# Altium integrated library Analog Devices Operational Amplifiers.IntLib: 2102 symbols (part 10 of 70)
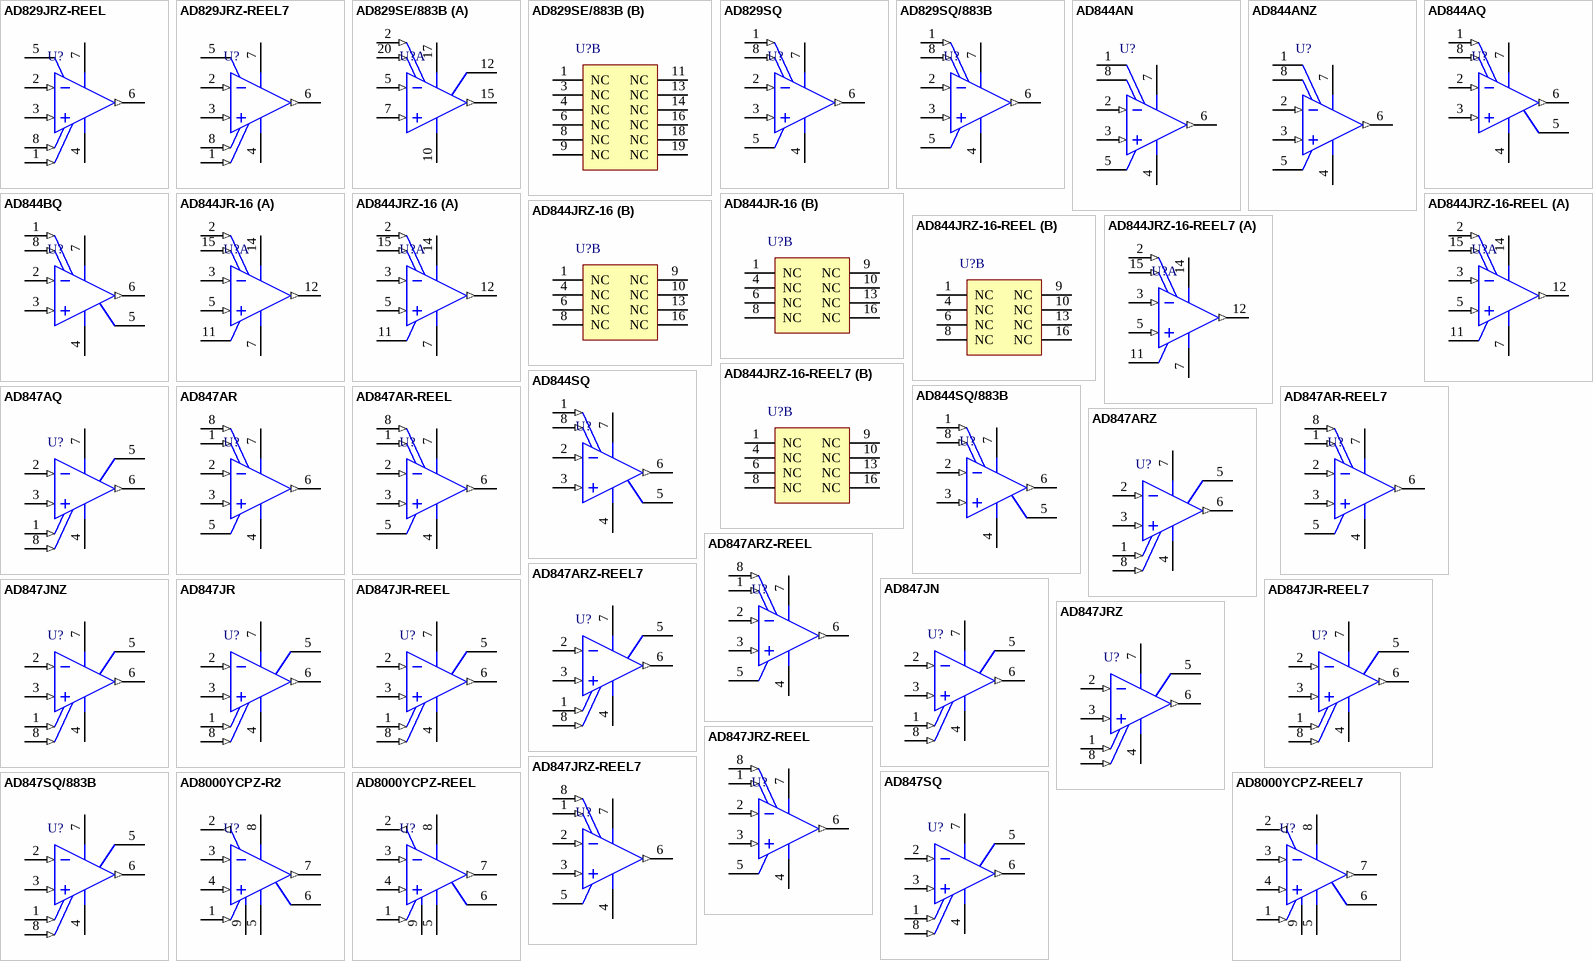
[diagram p123: symbols AD829JRZ-REEL to AD8000YCPZ-REEL7]

## AD847AR-REEL7
designator U?
Single Channel Superior Performance, High Unity Gain Operational Amplifier, 50 MHz BW, 300 V/us SR, Industrial, 8-pin SOIC (R-8), Reel; Generic Part Number: AD847; Manufacturer: Analog Devices; PartNumber: AD847AR-REEL7; Amplifiers Per Package: 1; Input Bias Current: 3.3uA; Input Offset Voltage: 500uV; Iq/Amp: 4.8mA; Small Signal Bandwidth: 50MHz; V Span Max: 36V; V Span Min: 9V; DatasheetVersion: Rev. F; PackageVersion: 060506-A; PackageReference: R-8; PackageDescription: 8-Pin Standard Small Outline Package, Body 3.9 x 4.9 mm, Pitch 1.27 mm; Supplier 1: Digi-Key; Supplier Part Number 1: AD847AR-REEL7-ND; Supplier 2: Newark; Supplier Part Number 2: 09B6626; Packing: Reel; Slew Rate: 300V/us; Mounting Technology: Surface Mount; Code_JEDEC: MS-012-AA; ComponentLink1Description: Manufacturer URL; ComponentLink1URL: http://www.analog.com/en/index.html; ComponentLink2Description: Datasheet; ComponentLink2URL: http://www.analog.com/static/imported-files/data_sheets/AD847.pdf; ComponentLink3Description: Package Specification; ComponentLink3URL: http://www.analog.com/static/imported-files/packages/PKG_PDF/SOIC_Narrow%20(R)/R_8.pdf
footprint ADI-R-8_N (SOIC, 8-Leads, Body 4.9x3.9mm, Pitch 1.27mm, IPC Medium Density)
footprint ADI-R-8_L (SOIC, 8-Leads, Body 4.9x3.9mm, Pitch 1.27mm, IPC High Density)
footprint ADI-R-8_M (SOIC, 8-Leads, Body 4.9x3.9mm, Pitch 1.27mm, IPC Low Density)
pins: 1 NULL (in), 2 -IN (in), 3 +IN (in), 4 -VS (power), 5 NC, 6 OUT (out), 7 +VS (power), 8 NULL (in)

## AD847ARZ
designator U?
Single Channel Superior Performance, High Unity Gain Operational Amplifier, 50 MHz BW, 300 V/us SR, Industrial, 8-pin SOIC (R-8), Tube; Generic Part Number: AD847; Manufacturer: Analog Devices; PartNumber: AD847ARZ; Amplifiers Per Package: 1; Input Bias Current: 3.3uA; Input Offset Voltage: 500uV; Iq/Amp: 4.8mA; Small Signal Bandwidth: 50MHz; V Span Max: 36V; V Span Min: 9V; DatasheetVersion: Rev. F; PackageVersion: 060506-A; PackageReference: R-8; PackageDescription: 8-Pin Standard Small Outline Package, Body 3.9 x 4.9 mm, Pitch 1.27 mm; Supplier 1: Digi-Key; Supplier Part Number 1: AD847ARZ-ND; Supplier 2: Newark; Supplier Part Number 2: 88H0244; Packing: Tube; Slew Rate: 300V/us; Mounting Technology: Surface Mount; Code_JEDEC: MS-012-AA; ComponentLink1Description: Manufacturer URL; ComponentLink1URL: http://www.analog.com/en/index.html; ComponentLink2Description: Datasheet; ComponentLink2URL: http://www.analog.com/static/imported-files/data_sheets/AD847.pdf; ComponentLink3Description: Package Specification; ComponentLink3URL: http://www.analog.com/static/imported-files/packages/PKG_PDF/SOIC_Narrow%20(R)/R_8.pdf
footprint ADI-R-8_N (SOIC, 8-Leads, Body 4.9x3.9mm, Pitch 1.27mm, IPC Medium Density)
footprint ADI-R-8_L (SOIC, 8-Leads, Body 4.9x3.9mm, Pitch 1.27mm, IPC High Density)
footprint ADI-R-8_M (SOIC, 8-Leads, Body 4.9x3.9mm, Pitch 1.27mm, IPC Low Density)
pins: 1 NULL (in), 2 -IN (in), 3 +IN (in), 4 -VS (power), 5 NC, 6 OUT (out), 7 +VS (power), 8 NULL (in)

## AD847ARZ-REEL
designator U?
Single Channel Superior Performance, High Unity Gain Operational Amplifier, 50 MHz BW, 300 V/us SR, Industrial, 8-pin SOIC (R-8), Reel; Generic Part Number: AD847; Manufacturer: Analog Devices; PartNumber: AD847ARZ-REEL; Amplifiers Per Package: 1; Input Bias Current: 3.3uA; Input Offset Voltage: 500uV; Iq/Amp: 4.8mA; Small Signal Bandwidth: 50MHz; V Span Max: 36V; V Span Min: 9V; DatasheetVersion: Rev. F; PackageVersion: 060506-A; PackageReference: R-8; PackageDescription: 8-Pin Standard Small Outline Package, Body 3.9 x 4.9 mm, Pitch 1.27 mm; Supplier 1: Digi-Key; Supplier Part Number 1: AD847ARZ-REEL-ND; Supplier 2: Newark; Supplier Part Number 2: 88H0245; Packing: Reel; Slew Rate: 300V/us; Mounting Technology: Surface Mount; Code_JEDEC: MS-012-AA; ComponentLink1Description: Manufacturer URL; ComponentLink1URL: http://www.analog.com/en/index.html; ComponentLink2Description: Datasheet; ComponentLink2URL: http://www.analog.com/static/imported-files/data_sheets/AD847.pdf; ComponentLink3Description: Package Specification; ComponentLink3URL: http://www.analog.com/static/imported-files/packages/PKG_PDF/SOIC_Narrow%20(R)/R_8.pdf
footprint ADI-R-8_N (SOIC, 8-Leads, Body 4.9x3.9mm, Pitch 1.27mm, IPC Medium Density)
footprint ADI-R-8_L (SOIC, 8-Leads, Body 4.9x3.9mm, Pitch 1.27mm, IPC High Density)
footprint ADI-R-8_M (SOIC, 8-Leads, Body 4.9x3.9mm, Pitch 1.27mm, IPC Low Density)
pins: 1 NULL (in), 2 -IN (in), 3 +IN (in), 4 -VS (power), 5 NC, 6 OUT (out), 7 +VS (power), 8 NULL (in)

## AD847ARZ-REEL7
designator U?
Single Channel Superior Performance, High Unity Gain Operational Amplifier, 50 MHz BW, 300 V/us SR, Industrial, 8-pin SOIC (R-8), Reel; Generic Part Number: AD847; Manufacturer: Analog Devices; PartNumber: AD847ARZ-REEL7; Amplifiers Per Package: 1; Input Bias Current: 3.3uA; Input Offset Voltage: 500uV; Iq/Amp: 4.8mA; Small Signal Bandwidth: 50MHz; V Span Max: 36V; V Span Min: 9V; DatasheetVersion: Rev. F; PackageVersion: 060506-A; PackageReference: R-8; PackageDescription: 8-Pin Standard Small Outline Package, Body 3.9 x 4.9 mm, Pitch 1.27 mm; Supplier 1: Digi-Key; Supplier Part Number 1: AD847ARZ-REEL7TR-ND; Supplier 2: Digi-Key; Supplier Part Number 2: AD847ARZ-REEL7CT-ND; Supplier 3: Digi-Key; Supplier Part Number 3: AD847ARZ-REEL7DKR-ND; Supplier 4: Newark; Supplier Part Number 4: 88H0246; Packing: Reel; Slew Rate: 300V/us; Mounting Technology: Surface Mount; Code_JEDEC: MS-012-AA; ComponentLink1Description: Manufacturer URL; ComponentLink1URL: http://www.analog.com/en/index.html; ComponentLink2Description: Datasheet; ComponentLink2URL: http://www.analog.com/static/imported-files/data_sheets/AD847.pdf; ComponentLink3Description: Package Specification; ComponentLink3URL: http://www.analog.com/static/imported-files/packages/PKG_PDF/SOIC_Narrow%20(R)/R_8.pdf
footprint ADI-R-8_N (SOIC, 8-Leads, Body 4.9x3.9mm, Pitch 1.27mm, IPC Medium Density)
footprint ADI-R-8_L (SOIC, 8-Leads, Body 4.9x3.9mm, Pitch 1.27mm, IPC High Density)
footprint ADI-R-8_M (SOIC, 8-Leads, Body 4.9x3.9mm, Pitch 1.27mm, IPC Low Density)
pins: 1 NULL (in), 2 -IN (in), 3 +IN (in), 4 -VS (power), 5 NC, 6 OUT (out), 7 +VS (power), 8 NULL (in)

## AD847JN
designator U?
Single Channel Superior Performance, High Unity Gain Operational Amplifier, 50 MHz BW, 300 V/us SR, Commercial, 8-pin DIP (N-8), Tube; Generic Part Number: AD847; Manufacturer: Analog Devices; PartNumber: AD847JN; Amplifiers Per Package: 1; Input Bias Current: 3.3uA; Input Offset Voltage: 500uV; Iq/Amp: 4.8mA; Small Signal Bandwidth: 50MHz; V Span Max: 36V; V Span Min: 9V; DatasheetVersion: Rev. F; PackageVersion: 070606-A; PackageReference: N-8; PackageDescription: 8-Pin Plastic Dual In-Line Package, Row spacing 7.62 mm, Pitch 2.54 mm; Supplier 1: Digi-Key; Supplier Part Number 1: AD847JN-ND; Packing: Tube; Slew Rate: 300V/us; Mounting Technology: Through Hole; Code_JEDEC: MS-001; ComponentLink1Description: Manufacturer URL; ComponentLink1URL: http://www.analog.com/en/index.html; ComponentLink2Description: Datasheet; ComponentLink2URL: http://www.analog.com/static/imported-files/data_sheets/AD847.pdf; ComponentLink3Description: Package Specification; ComponentLink3URL: http:/www.analog.com/static/imported-files/packages/PKG_PDF/PDIP(N)/N_8.pdf
footprint ADI-N-8 (DIP, 8-Leads, Body 9.59x6.6mm, Pitch 2.54mm)
pins: 1 NULL (in), 2 -IN (in), 3 +IN (in), 4 -VS (power), 5 NC, 6 OUT (out), 7 +VS (power), 8 NULL (in)

## AD847JNZ
designator U?
Single Channel Superior Performance, High Unity Gain Operational Amplifier, 50 MHz BW, 300 V/us SR, Commercial, 8-pin DIP (N-8), Tube; Generic Part Number: AD847; Manufacturer: Analog Devices; PartNumber: AD847JNZ; Amplifiers Per Package: 1; Input Bias Current: 3.3uA; Input Offset Voltage: 500uV; Iq/Amp: 4.8mA; Small Signal Bandwidth: 50MHz; V Span Max: 36V; V Span Min: 9V; DatasheetVersion: Rev. F; PackageVersion: 070606-A; PackageReference: N-8; PackageDescription: 8-Pin Plastic Dual In-Line Package, Row spacing 7.62 mm, Pitch 2.54 mm; Supplier 1: Digi-Key; Supplier Part Number 1: AD847JNZ-ND; Supplier 2: Farnell; Supplier Part Number 2: 1523891; Supplier 3: Farnell; Supplier Part Number 3: 9604707; Supplier 4: Newark; Supplier Part Number 4: 59K6758; Packing: Tube; Slew Rate: 300V/us; Mounting Technology: Through Hole; Code_JEDEC: MS-001; ComponentLink1Description: Manufacturer URL; ComponentLink1URL: http://www.analog.com/en/index.html; ComponentLink2Description: Datasheet; ComponentLink2URL: http://www.analog.com/static/imported-files/data_sheets/AD847.pdf; ComponentLink3Description: Package Specification; ComponentLink3URL: http:/www.analog.com/static/imported-files/packages/PKG_PDF/PDIP(N)/N_8.pdf
footprint ADI-N-8 (DIP, 8-Leads, Body 9.59x6.6mm, Pitch 2.54mm)
pins: 1 NULL (in), 2 -IN (in), 3 +IN (in), 4 -VS (power), 5 NC, 6 OUT (out), 7 +VS (power), 8 NULL (in)

## AD847JR
designator U?
Single Channel Superior Performance, High Unity Gain Operational Amplifier, 50 MHz BW, 300 V/us SR, Commercial, 8-pin SOIC (R-8), Tube; Generic Part Number: AD847; Manufacturer: Analog Devices; PartNumber: AD847JR; Amplifiers Per Package: 1; Input Bias Current: 3.3uA; Input Offset Voltage: 500uV; Iq/Amp: 4.8mA; Small Signal Bandwidth: 50MHz; V Span Max: 36V; V Span Min: 9V; DatasheetVersion: Rev. F; PackageVersion: 060506-A; PackageReference: R-8; PackageDescription: 8-Pin Standard Small Outline Package, Body 3.9 x 4.9 mm, Pitch 1.27 mm; Supplier 1: Digi-Key; Supplier Part Number 1: AD847JR-ND; Packing: Tube; Slew Rate: 300V/us; Mounting Technology: Surface Mount; Code_JEDEC: MS-012-AA; ComponentLink1Description: Manufacturer URL; ComponentLink1URL: http://www.analog.com/en/index.html; ComponentLink2Description: Datasheet; ComponentLink2URL: http://www.analog.com/static/imported-files/data_sheets/AD847.pdf; ComponentLink3Description: Package Specification; ComponentLink3URL: http://www.analog.com/static/imported-files/packages/PKG_PDF/SOIC_Narrow%20(R)/R_8.pdf
footprint ADI-R-8_N (SOIC, 8-Leads, Body 4.9x3.9mm, Pitch 1.27mm, IPC Medium Density)
footprint ADI-R-8_L (SOIC, 8-Leads, Body 4.9x3.9mm, Pitch 1.27mm, IPC High Density)
footprint ADI-R-8_M (SOIC, 8-Leads, Body 4.9x3.9mm, Pitch 1.27mm, IPC Low Density)
pins: 1 NULL (in), 2 -IN (in), 3 +IN (in), 4 -VS (power), 5 NC, 6 OUT (out), 7 +VS (power), 8 NULL (in)

## AD847JR-REEL
designator U?
Single Channel Superior Performance, High Unity Gain Operational Amplifier, 50 MHz BW, 300 V/us SR, Commercial, 8-pin SOIC (R-8), Reel; Generic Part Number: AD847; Manufacturer: Analog Devices; PartNumber: AD847JR-REEL; Amplifiers Per Package: 1; Input Bias Current: 3.3uA; Input Offset Voltage: 500uV; Iq/Amp: 4.8mA; Small Signal Bandwidth: 50MHz; V Span Max: 36V; V Span Min: 9V; DatasheetVersion: Rev. F; PackageVersion: 060506-A; PackageReference: R-8; PackageDescription: 8-Pin Standard Small Outline Package, Body 3.9 x 4.9 mm, Pitch 1.27 mm; Supplier 1: Digi-Key; Supplier Part Number 1: AD847JR-REEL-ND; Supplier 2: Newark; Supplier Part Number 2: 09B6627; Packing: Reel; Slew Rate: 300V/us; Mounting Technology: Surface Mount; Code_JEDEC: MS-012-AA; ComponentLink1Description: Manufacturer URL; ComponentLink1URL: http://www.analog.com/en/index.html; ComponentLink2Description: Datasheet; ComponentLink2URL: http://www.analog.com/static/imported-files/data_sheets/AD847.pdf; ComponentLink3Description: Package Specification; ComponentLink3URL: http://www.analog.com/static/imported-files/packages/PKG_PDF/SOIC_Narrow%20(R)/R_8.pdf
footprint ADI-R-8_N (SOIC, 8-Leads, Body 4.9x3.9mm, Pitch 1.27mm, IPC Medium Density)
footprint ADI-R-8_L (SOIC, 8-Leads, Body 4.9x3.9mm, Pitch 1.27mm, IPC High Density)
footprint ADI-R-8_M (SOIC, 8-Leads, Body 4.9x3.9mm, Pitch 1.27mm, IPC Low Density)
pins: 1 NULL (in), 2 -IN (in), 3 +IN (in), 4 -VS (power), 5 NC, 6 OUT (out), 7 +VS (power), 8 NULL (in)

## AD847JR-REEL7
designator U?
Single Channel Superior Performance, High Unity Gain Operational Amplifier, 50 MHz BW, 300 V/us SR, Commercial, 8-pin SOIC (R-8), Reel; Generic Part Number: AD847; Manufacturer: Analog Devices; PartNumber: AD847JR-REEL7; Amplifiers Per Package: 1; Input Bias Current: 3.3uA; Input Offset Voltage: 500uV; Iq/Amp: 4.8mA; Small Signal Bandwidth: 50MHz; V Span Max: 36V; V Span Min: 9V; DatasheetVersion: Rev. F; PackageVersion: 060506-A; PackageReference: R-8; PackageDescription: 8-Pin Standard Small Outline Package, Body 3.9 x 4.9 mm, Pitch 1.27 mm; Supplier 1: Digi-Key; Supplier Part Number 1: AD847JR-REEL7-ND; Supplier 2: Newark; Supplier Part Number 2: 09B6628; Packing: Reel; Slew Rate: 300V/us; Mounting Technology: Surface Mount; Code_JEDEC: MS-012-AA; ComponentLink1Description: Manufacturer URL; ComponentLink1URL: http://www.analog.com/en/index.html; ComponentLink2Description: Datasheet; ComponentLink2URL: http://www.analog.com/static/imported-files/data_sheets/AD847.pdf; ComponentLink3Description: Package Specification; ComponentLink3URL: http://www.analog.com/static/imported-files/packages/PKG_PDF/SOIC_Narrow%20(R)/R_8.pdf
footprint ADI-R-8_N (SOIC, 8-Leads, Body 4.9x3.9mm, Pitch 1.27mm, IPC Medium Density)
footprint ADI-R-8_L (SOIC, 8-Leads, Body 4.9x3.9mm, Pitch 1.27mm, IPC High Density)
footprint ADI-R-8_M (SOIC, 8-Leads, Body 4.9x3.9mm, Pitch 1.27mm, IPC Low Density)
pins: 1 NULL (in), 2 -IN (in), 3 +IN (in), 4 -VS (power), 5 NC, 6 OUT (out), 7 +VS (power), 8 NULL (in)

## AD847JRZ
designator U?
Single Channel Superior Performance, High Unity Gain Operational Amplifier, 50 MHz BW, 300 V/us SR, Commercial, 8-pin SOIC (R-8), Tube; Generic Part Number: AD847; Manufacturer: Analog Devices; PartNumber: AD847JRZ; Amplifiers Per Package: 1; Input Bias Current: 3.3uA; Input Offset Voltage: 500uV; Iq/Amp: 4.8mA; Small Signal Bandwidth: 50MHz; V Span Max: 36V; V Span Min: 9V; DatasheetVersion: Rev. F; PackageVersion: 060506-A; PackageReference: R-8; PackageDescription: 8-Pin Standard Small Outline Package, Body 3.9 x 4.9 mm, Pitch 1.27 mm; Supplier 1: Digi-Key; Supplier Part Number 1: AD847JRZ-ND; Supplier 2: Farnell; Supplier Part Number 2: 9426477; Supplier 3: Newark; Supplier Part Number 3: 19M1202; Packing: Tube; Slew Rate: 300V/us; Mounting Technology: Surface Mount; Code_JEDEC: MS-012-AA; ComponentLink1Description: Manufacturer URL; ComponentLink1URL: http://www.analog.com/en/index.html; ComponentLink2Description: Datasheet; ComponentLink2URL: http://www.analog.com/static/imported-files/data_sheets/AD847.pdf; ComponentLink3Description: Package Specification; ComponentLink3URL: http://www.analog.com/static/imported-files/packages/PKG_PDF/SOIC_Narrow%20(R)/R_8.pdf
footprint ADI-R-8_N (SOIC, 8-Leads, Body 4.9x3.9mm, Pitch 1.27mm, IPC Medium Density)
footprint ADI-R-8_L (SOIC, 8-Leads, Body 4.9x3.9mm, Pitch 1.27mm, IPC High Density)
footprint ADI-R-8_M (SOIC, 8-Leads, Body 4.9x3.9mm, Pitch 1.27mm, IPC Low Density)
pins: 1 NULL (in), 2 -IN (in), 3 +IN (in), 4 -VS (power), 5 NC, 6 OUT (out), 7 +VS (power), 8 NULL (in)

## AD847JRZ-REEL
designator U?
Single Channel Superior Performance, High Unity Gain Operational Amplifier, 50 MHz BW, 300 V/us SR, Commercial, 8-pin SOIC (R-8), Reel; Generic Part Number: AD847; Manufacturer: Analog Devices; PartNumber: AD847JRZ-REEL; Amplifiers Per Package: 1; Input Bias Current: 3.3uA; Input Offset Voltage: 500uV; Iq/Amp: 4.8mA; Small Signal Bandwidth: 50MHz; V Span Max: 36V; V Span Min: 9V; DatasheetVersion: Rev. F; PackageVersion: 060506-A; PackageReference: R-8; PackageDescription: 8-Pin Standard Small Outline Package, Body 3.9 x 4.9 mm, Pitch 1.27 mm; Supplier 1: Digi-Key; Supplier Part Number 1: AD847JRZ-REEL-ND; Supplier 2: Newark; Supplier Part Number 2: 88H0248; Packing: Reel; Slew Rate: 300V/us; Mounting Technology: Surface Mount; Code_JEDEC: MS-012-AA; ComponentLink1Description: Manufacturer URL; ComponentLink1URL: http://www.analog.com/en/index.html; ComponentLink2Description: Datasheet; ComponentLink2URL: http://www.analog.com/static/imported-files/data_sheets/AD847.pdf; ComponentLink3Description: Package Specification; ComponentLink3URL: http://www.analog.com/static/imported-files/packages/PKG_PDF/SOIC_Narrow%20(R)/R_8.pdf
footprint ADI-R-8_N (SOIC, 8-Leads, Body 4.9x3.9mm, Pitch 1.27mm, IPC Medium Density)
footprint ADI-R-8_L (SOIC, 8-Leads, Body 4.9x3.9mm, Pitch 1.27mm, IPC High Density)
footprint ADI-R-8_M (SOIC, 8-Leads, Body 4.9x3.9mm, Pitch 1.27mm, IPC Low Density)
pins: 1 NULL (in), 2 -IN (in), 3 +IN (in), 4 -VS (power), 5 NC, 6 OUT (out), 7 +VS (power), 8 NULL (in)

## AD847JRZ-REEL7
designator U?
Single Channel Superior Performance, High Unity Gain Operational Amplifier, 50 MHz BW, 300 V/us SR, Commercial, 8-pin SOIC (R-8), Reel; Generic Part Number: AD847; Manufacturer: Analog Devices; PartNumber: AD847JRZ-REEL7; Amplifiers Per Package: 1; Input Bias Current: 3.3uA; Input Offset Voltage: 500uV; Iq/Amp: 4.8mA; Small Signal Bandwidth: 50MHz; V Span Max: 36V; V Span Min: 9V; DatasheetVersion: Rev. F; PackageVersion: 060506-A; PackageReference: R-8; PackageDescription: 8-Pin Standard Small Outline Package, Body 3.9 x 4.9 mm, Pitch 1.27 mm; Supplier 1: Digi-Key; Supplier Part Number 1: AD847JRZ-REEL7TR-ND; Supplier 2: Digi-Key; Supplier Part Number 2: AD847JRZ-REEL7CT-ND; Supplier 3: Digi-Key; Supplier Part Number 3: AD847JRZ-REEL7DKR-ND; Supplier 4: Newark; Supplier Part Number 4: 88H0249; Packing: Reel; Slew Rate: 300V/us; Mounting Technology: Surface Mount; Code_JEDEC: MS-012-AA; ComponentLink1Description: Manufacturer URL; ComponentLink1URL: http://www.analog.com/en/index.html; ComponentLink2Description: Datasheet; ComponentLink2URL: http://www.analog.com/static/imported-files/data_sheets/AD847.pdf; ComponentLink3Description: Package Specification; ComponentLink3URL: http://www.analog.com/static/imported-files/packages/PKG_PDF/SOIC_Narrow%20(R)/R_8.pdf
footprint ADI-R-8_N (SOIC, 8-Leads, Body 4.9x3.9mm, Pitch 1.27mm, IPC Medium Density)
footprint ADI-R-8_L (SOIC, 8-Leads, Body 4.9x3.9mm, Pitch 1.27mm, IPC High Density)
footprint ADI-R-8_M (SOIC, 8-Leads, Body 4.9x3.9mm, Pitch 1.27mm, IPC Low Density)
pins: 1 NULL (in), 2 -IN (in), 3 +IN (in), 4 -VS (power), 5 NC, 6 OUT (out), 7 +VS (power), 8 NULL (in)

## AD847SQ
designator U?
Single Channel Superior Performance, High Unity Gain Operational Amplifier, 50 MHz BW, 300 V/us SR, Military, 8-pin DIP (Q-8), Tube; Generic Part Number: AD847; Manufacturer: Analog Devices; PartNumber: AD847SQ; Amplifiers Per Package: 1; Input Bias Current: 3.3uA; Input Offset Voltage: 500uV; Iq/Amp: 4.8mA; Small Signal Bandwidth: 50MHz; V Span Max: 36V; V Span Min: 9V; DatasheetVersion: Rev. F; PackageReference: Q-8; PackageDescription: 8-Pin Ceramic Dual In-Line Package, Row spacing 7.62 mm, Pitch 2.54 mm; Supplier 1: Digi-Key; Supplier Part Number 1: AD847SQ-ND; Supplier 2: Newark; Supplier Part Number 2: 05F7726; Packing: Tube; Slew Rate: 300V/us; Mounting Technology: Through Hole; ComponentLink1Description: Manufacturer URL; ComponentLink1URL: http://www.analog.com/en/index.html; ComponentLink2Description: Datasheet; ComponentLink2URL: http://www.analog.com/static/imported-files/data_sheets/AD847.pdf; ComponentLink3Description: Package Specification; ComponentLink3URL: http://www.analog.com/static/imported-files/packages/3925655241313314758Q_8.pdf
footprint ADI-Q-8 (DIP, 8-Leads, Body 10.29x6.73mm, Pitch 2.54mm)
pins: 1 NULL (in), 2 -IN (in), 3 +IN (in), 4 -VS (power), 5 NC, 6 OUT (out), 7 +VS (power), 8 NULL (in)

## AD847SQ/883B
designator U?
Single Channel Superior Performance, High Unity Gain Operational Amplifier, 50 MHz BW, 300 V/us SR, Military, 8-pin DIP (Q-8), Tube; Generic Part Number: AD847; Manufacturer: Analog Devices; PartNumber: AD847SQ/883B; Amplifiers Per Package: 1; Input Bias Current: 3.3uA; Input Offset Voltage: 500uV; Iq/Amp: 4.8mA; Small Signal Bandwidth: 50MHz; V Span Max: 36V; V Span Min: 9V; DatasheetVersion: Rev. F; PackageReference: Q-8; PackageDescription: 8-Pin Ceramic Dual In-Line Package, Row spacing 7.62 mm, Pitch 2.54 mm; Supplier 1: Digi-Key; Supplier Part Number 1: AD847SQ/883B-ND; Packing: Tube; Slew Rate: 300V/us; Mounting Technology: Through Hole; ComponentLink1Description: Manufacturer URL; ComponentLink1URL: http://www.analog.com/en/index.html; ComponentLink2Description: Datasheet; ComponentLink2URL: http://www.analog.com/static/imported-files/data_sheets/AD847.pdf; ComponentLink3Description: Package Specification; ComponentLink3URL: http://www.analog.com/static/imported-files/packages/3925655241313314758Q_8.pdf
footprint ADI-Q-8 (DIP, 8-Leads, Body 10.29x6.73mm, Pitch 2.54mm)
pins: 1 NULL (in), 2 -IN (in), 3 +IN (in), 4 -VS (power), 5 NC, 6 OUT (out), 7 +VS (power), 8 NULL (in)

## AD8000YCPZ-R2
designator U?
Single Channel Wide Bandwidth Operational Amplifier, 1.58 GHz BW, 4.1 KV/us SR, Industrial, 8-pin QFN (CP-8-2), Tube; Generic Part Number: AD8000; Manufacturer: Analog Devices; PartNumber: AD8000YCPZ-R2; Amplifiers Per Package: 1; Input Bias Current: 5uA; Input Offset Voltage: 1mV; Iq/Amp: 14.3mA; V Span Max: 12V; V Span Min: 4.5V; DatasheetVersion: Rev. A; PackageVersion: 061507-B; PackageReference: CP-8-2; PackageDescription: 8-Pin Lead Frame Chip Scale Package, Body 3 x 3 mm, Pitch 0.5 mm; Supplier 1: Digi-Key; Supplier Part Number 1: AD8000YCPZ-R2CT-ND; Supplier 2: Farnell; Supplier Part Number 2: 1078300; Supplier 3: Farnell; Supplier Part Number 3: 1078300RL; Supplier 4: Newark; Supplier Part Number 4: 31M4432; Supplier 5: Newark; Supplier Part Number 5: 59K6130; Slew Rate: 4.1KV/us; Small Signal Bandwidth: 1.58GHz; Mounting Technology: Surface Mount; ComponentLink1Description: Manufacturer URL; ComponentLink1URL: http://www.analog.com/en/index.html; ComponentLink2Description: Datasheet; ComponentLink2URL: http://www.analog.com/static/imported-files/data_sheets/AD8000.pdf; ComponentLink3Description: Package Specification; ComponentLink3URL: http://www.analog.com/static/imported-files/packages/56953322593982CP_8_2.pdf
footprint ADI-CP-8-2_N (QFN, 8-Leads, Body 3x3mm, Pitch 0.5mm, Thermal Pad 1.45X1.74mm, IPC Medium Density)
footprint ADI-CP-8-2_L (QFN, 8-Leads, Body 3x3mm, Pitch 0.5mm, Thermal Pad 1.45X1.74mm, IPC High Density)
footprint ADI-CP-8-2_M (QFN, 8-Leads, Body 3x3mm, Pitch 0.5mm, Thermal Pad 1.45X1.74mm, IPC Low Density)
pins: 1 POWER DOWN (in), 2 FEEDBACK (out), 3 -IN (in), 4 +IN (in), 5 -VS (power), 6 NC, 7 OUT (out), 8 +VS (power), 9 EP

## AD8000YCPZ-REEL
designator U?
Single Channel Wide Bandwidth Operational Amplifier, 1.58 GHz BW, 4.1 KV/us SR, Industrial, 8-pin QFN (CP-8-2), Reel; Generic Part Number: AD8000; Manufacturer: Analog Devices; PartNumber: AD8000YCPZ-REEL; Amplifiers Per Package: 1; Input Bias Current: 5uA; Input Offset Voltage: 1mV; Iq/Amp: 14.3mA; V Span Max: 12V; V Span Min: 4.5V; DatasheetVersion: Rev. A; PackageVersion: 061507-B; PackageReference: CP-8-2; PackageDescription: 8-Pin Lead Frame Chip Scale Package, Body 3 x 3 mm, Pitch 0.5 mm; Supplier 1: Digi-Key; Supplier Part Number 1: AD8000YCPZ-REEL-ND; Slew Rate: 4.1KV/us; Small Signal Bandwidth: 1.58GHz; Mounting Technology: Surface Mount; ComponentLink1Description: Manufacturer URL; ComponentLink1URL: http://www.analog.com/en/index.html; ComponentLink2Description: Datasheet; ComponentLink2URL: http://www.analog.com/static/imported-files/data_sheets/AD8000.pdf; ComponentLink3Description: Package Specification; ComponentLink3URL: http://www.analog.com/static/imported-files/packages/56953322593982CP_8_2.pdf
footprint ADI-CP-8-2_N (QFN, 8-Leads, Body 3x3mm, Pitch 0.5mm, Thermal Pad 1.45X1.74mm, IPC Medium Density)
footprint ADI-CP-8-2_L (QFN, 8-Leads, Body 3x3mm, Pitch 0.5mm, Thermal Pad 1.45X1.74mm, IPC High Density)
footprint ADI-CP-8-2_M (QFN, 8-Leads, Body 3x3mm, Pitch 0.5mm, Thermal Pad 1.45X1.74mm, IPC Low Density)
pins: 1 POWER DOWN (in), 2 FEEDBACK (out), 3 -IN (in), 4 +IN (in), 5 -VS (power), 6 NC, 7 OUT (out), 8 +VS (power), 9 EP

## AD8000YCPZ-REEL7
designator U?
Single Channel Wide Bandwidth Operational Amplifier, 1.58 GHz BW, 4.1 KV/us SR, Industrial, 8-pin QFN (CP-8-2), Reel; Generic Part Number: AD8000; Manufacturer: Analog Devices; PartNumber: AD8000YCPZ-REEL7; Amplifiers Per Package: 1; Input Bias Current: 5uA; Input Offset Voltage: 1mV; Iq/Amp: 14.3mA; V Span Max: 12V; V Span Min: 4.5V; DatasheetVersion: Rev. A; PackageVersion: 061507-B; PackageReference: CP-8-2; PackageDescription: 8-Pin Lead Frame Chip Scale Package, Body 3 x 3 mm, Pitch 0.5 mm; Supplier 1: Digi-Key; Supplier Part Number 1: AD8000YCPZ-REEL7TR-ND; Supplier 2: Digi-Key; Supplier Part Number 2: AD8000YCPZ-REEL7CT-ND; Supplier 3: Digi-Key; Supplier Part Number 3: AD8000YCPZ-REEL7DKR-ND; Supplier 4: Newark; Supplier Part Number 4: 59K6129; Slew Rate: 4.1KV/us; Small Signal Bandwidth: 1.58GHz; Mounting Technology: Surface Mount; ComponentLink1Description: Manufacturer URL; ComponentLink1URL: http://www.analog.com/en/index.html; ComponentLink2Description: Datasheet; ComponentLink2URL: http://www.analog.com/static/imported-files/data_sheets/AD8000.pdf; ComponentLink3Description: Package Specification; ComponentLink3URL: http://www.analog.com/static/imported-files/packages/56953322593982CP_8_2.pdf
footprint ADI-CP-8-2_N (QFN, 8-Leads, Body 3x3mm, Pitch 0.5mm, Thermal Pad 1.45X1.74mm, IPC Medium Density)
footprint ADI-CP-8-2_L (QFN, 8-Leads, Body 3x3mm, Pitch 0.5mm, Thermal Pad 1.45X1.74mm, IPC High Density)
footprint ADI-CP-8-2_M (QFN, 8-Leads, Body 3x3mm, Pitch 0.5mm, Thermal Pad 1.45X1.74mm, IPC Low Density)
pins: 1 POWER DOWN (in), 2 FEEDBACK (out), 3 -IN (in), 4 +IN (in), 5 -VS (power), 6 NC, 7 OUT (out), 8 +VS (power), 9 EP

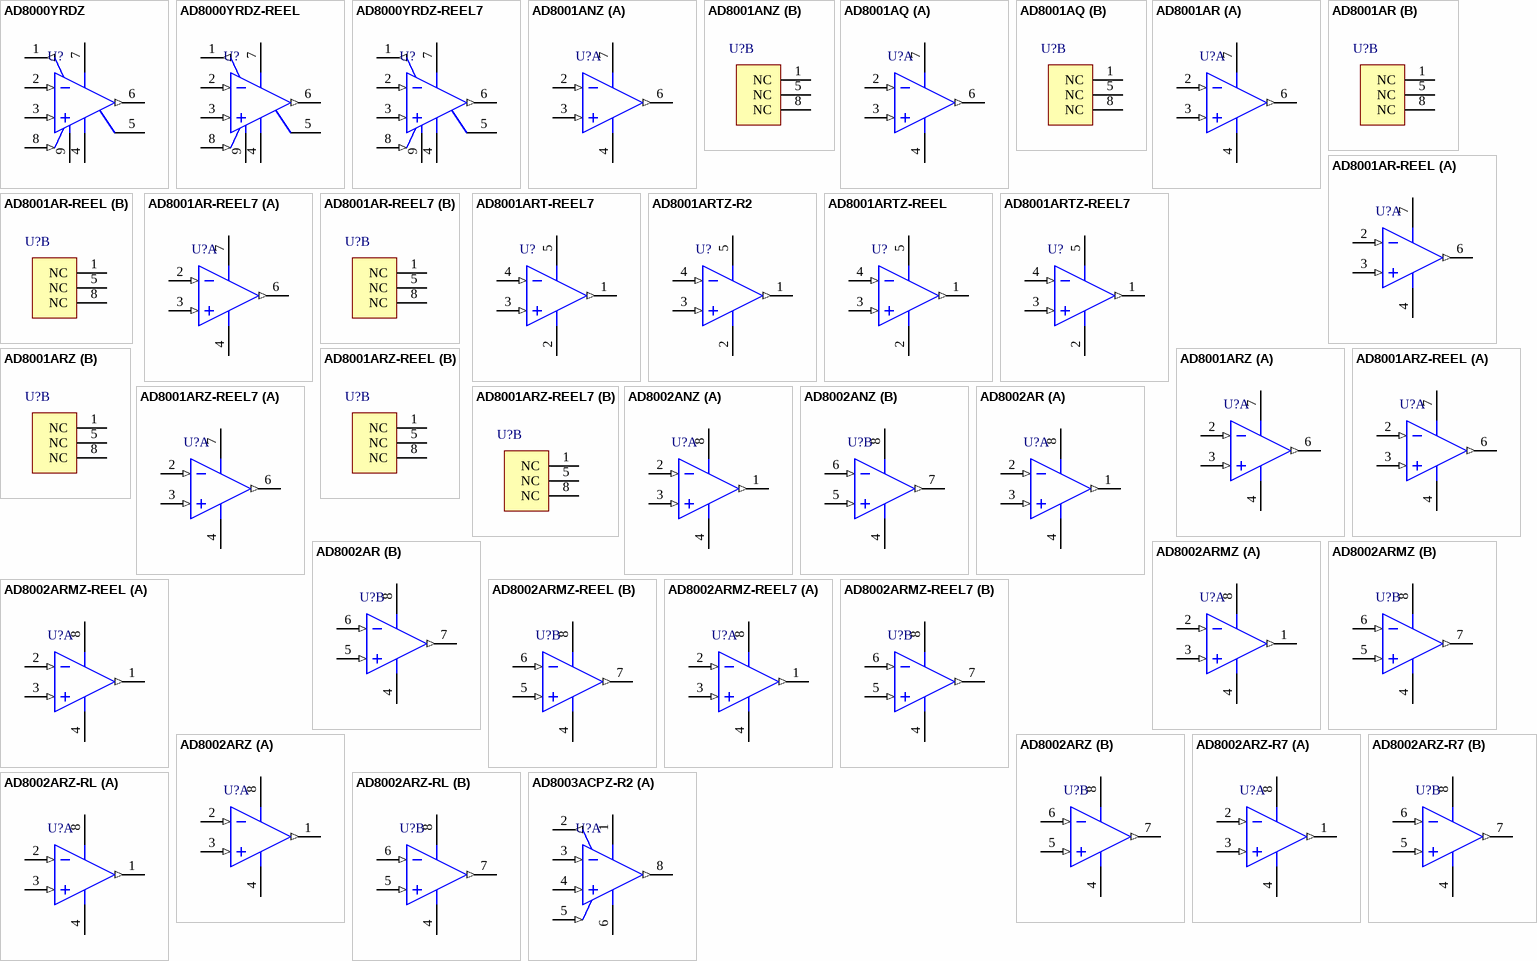
[diagram p15: symbols AD8000YRDZ to AD8003ACPZ-R2]

## AD8000YRDZ
designator U?
Single Channel Wide Bandwidth Operational Amplifier, 1.58 GHz BW, 4.1 KV/us SR, Industrial, 8-pin SOIC (RD-8-1), Tube; Generic Part Number: AD8000; Manufacturer: Analog Devices; PartNumber: AD8000YRDZ; Amplifiers Per Package: 1; Input Bias Current: 5uA; Input Offset Voltage: 1mV; Iq/Amp: 14.3mA; V Span Max: 12V; V Span Min: 4.5V; DatasheetVersion: Rev. A; PackageVersion: 060506-A; PackageReference: RD-8-1; PackageDescription: 8-Pin Standard Small Outline Package, Body 4.9 x 3.9 mm, Pitch 1.27 mm; Supplier 1: Digi-Key; Supplier Part Number 1: AD8000YRDZ-ND; Supplier 2: Farnell; Supplier Part Number 2: 1078301; Supplier 3: Newark; Supplier Part Number 3: 19M0910; Slew Rate: 4.1KV/us; Small Signal Bandwidth: 1.58GHz; Mounting Technology: Surface Mount; Code_JEDEC: MS-012-AA; ComponentLink1Description: Manufacturer URL; ComponentLink1URL: http://www.analog.com/en/index.html; ComponentLink2Description: Datasheet; ComponentLink2URL: http://www.analog.com/static/imported-files/data_sheets/AD8000.pdf; ComponentLink3Description: Package Specification; ComponentLink3URL: http://www.analog.com/static/imported-files/packages/PKG_PDF/SOIC_ED(RD)/RD_8_1.pdf
footprint ADI-RD-8-1_N (SOIC, 8-Leads, Body 4.9x3.9mm, Pitch 1.27mm, Thermal Pad 2.29x2.29mm, IPC Medium Density)
footprint ADI-RD-8-1_L (SOIC, 8-Leads, Body 4.9x3.9mm, Pitch 1.27mm, Thermal Pad 2.29x2.29mm, IPC High Density)
footprint ADI-RD-8-1_M (SOIC, 8-Leads, Body 4.9x3.9mm, Pitch 1.27mm, Thermal Pad 2.29x2.29mm, IPC Low Density)
pins: 1 FEEDBACK (out), 2 -IN (in), 3 +IN (in), 4 -VS (power), 5 NC "NO CONNECT.", 6 OUT (out), 7 +VS (power), 8 POWER DOWN (in), 9 EP (power) "THE EXPOSED PADDLE IS CONNECTED TO GROUND."

## AD8000YRDZ-REEL
designator U?
Single Channel Wide Bandwidth Operational Amplifier, 1.58 GHz BW, 4.1 KV/us SR, Industrial, 8-pin SOIC (RD-8-1), Reel; Generic Part Number: AD8000; Manufacturer: Analog Devices; PartNumber: AD8000YRDZ-REEL; Amplifiers Per Package: 1; Input Bias Current: 5uA; Input Offset Voltage: 1mV; Iq/Amp: 14.3mA; V Span Max: 12V; V Span Min: 4.5V; DatasheetVersion: Rev. A; PackageVersion: 060506-A; PackageReference: RD-8-1; PackageDescription: 8-Pin Standard Small Outline Package, Body 4.9 x 3.9 mm, Pitch 1.27 mm; Supplier 1: Digi-Key; Supplier Part Number 1: AD8000YRDZ-REEL-ND; Slew Rate: 4.1KV/us; Small Signal Bandwidth: 1.58GHz; Mounting Technology: Surface Mount; Code_JEDEC: MS-012-AA; ComponentLink1Description: Manufacturer URL; ComponentLink1URL: http://www.analog.com/en/index.html; ComponentLink2Description: Datasheet; ComponentLink2URL: http://www.analog.com/static/imported-files/data_sheets/AD8000.pdf; ComponentLink3Description: Package Specification; ComponentLink3URL: http://www.analog.com/static/imported-files/packages/PKG_PDF/SOIC_ED(RD)/RD_8_1.pdf
footprint ADI-RD-8-1_N (SOIC, 8-Leads, Body 4.9x3.9mm, Pitch 1.27mm, Thermal Pad 2.29x2.29mm, IPC Medium Density)
footprint ADI-RD-8-1_L (SOIC, 8-Leads, Body 4.9x3.9mm, Pitch 1.27mm, Thermal Pad 2.29x2.29mm, IPC High Density)
footprint ADI-RD-8-1_M (SOIC, 8-Leads, Body 4.9x3.9mm, Pitch 1.27mm, Thermal Pad 2.29x2.29mm, IPC Low Density)
pins: 1 FEEDBACK (out), 2 -IN (in), 3 +IN (in), 4 -VS (power), 5 NC "NO CONNECT.", 6 OUT (out), 7 +VS (power), 8 POWER DOWN (in), 9 EP (power) "THE EXPOSED PADDLE IS CONNECTED TO GROUND."

## AD8000YRDZ-REEL7
designator U?
Single Channel Wide Bandwidth Operational Amplifier, 1.58 GHz BW, 4.1 KV/us SR, Industrial, 8-pin SOIC (RD-8-1), Reel; Generic Part Number: AD8000; Manufacturer: Analog Devices; PartNumber: AD8000YRDZ-REEL7; Amplifiers Per Package: 1; Input Bias Current: 5uA; Input Offset Voltage: 1mV; Iq/Amp: 14.3mA; V Span Max: 12V; V Span Min: 4.5V; DatasheetVersion: Rev. A; PackageVersion: 060506-A; PackageReference: RD-8-1; PackageDescription: 8-Pin Standard Small Outline Package, Body 4.9 x 3.9 mm, Pitch 1.27 mm; Supplier 1: Digi-Key; Supplier Part Number 1: AD8000YRDZ-REEL7-ND; Supplier 2: Newark; Supplier Part Number 2: 59K6133; Slew Rate: 4.1KV/us; Small Signal Bandwidth: 1.58GHz; Mounting Technology: Surface Mount; Code_JEDEC: MS-012-AA; ComponentLink1Description: Manufacturer URL; ComponentLink1URL: http://www.analog.com/en/index.html; ComponentLink2Description: Datasheet; ComponentLink2URL: http://www.analog.com/static/imported-files/data_sheets/AD8000.pdf; ComponentLink3Description: Package Specification; ComponentLink3URL: http://www.analog.com/static/imported-files/packages/PKG_PDF/SOIC_ED(RD)/RD_8_1.pdf
footprint ADI-RD-8-1_N (SOIC, 8-Leads, Body 4.9x3.9mm, Pitch 1.27mm, Thermal Pad 2.29x2.29mm, IPC Medium Density)
footprint ADI-RD-8-1_L (SOIC, 8-Leads, Body 4.9x3.9mm, Pitch 1.27mm, Thermal Pad 2.29x2.29mm, IPC High Density)
footprint ADI-RD-8-1_M (SOIC, 8-Leads, Body 4.9x3.9mm, Pitch 1.27mm, Thermal Pad 2.29x2.29mm, IPC Low Density)
pins: 1 FEEDBACK (out), 2 -IN (in), 3 +IN (in), 4 -VS (power), 5 NC "NO CONNECT.", 6 OUT (out), 7 +VS (power), 8 POWER DOWN (in), 9 EP (power) "THE EXPOSED PADDLE IS CONNECTED TO GROUND."

## AD8001ANZ
designator U?
Single Channel Low Power Operational Amplifier, 880 MHz BW, 1 KV/us SR, Industrial, 8-pin DIP (N-8), Tube; Generic Part Number: AD8001; Manufacturer: Analog Devices; PartNumber: AD8001ANZ; Amplifiers Per Package: 1; Input Bias Current: 3uA; Input Offset Voltage: 2mV; Iq/Amp: 5mA; Slew Rate: 1KV/us; Small Signal Bandwidth: 880MHz; V Span Max: 12V; V Span Min: 6V; DatasheetVersion: Rev. D; PackageVersion: 070606-A; PackageReference: N-8; PackageDescription: 8-Pin Plastic Dual In-Line Package, Row spacing 7.62 mm, Pitch 2.54 mm; Supplier 1: Digi-Key; Supplier Part Number 1: AD8001ANZ-ND; Supplier 2: Farnell; Supplier Part Number 2: 9605304; Supplier 3: Newark; Supplier Part Number 3: 19M0911; Mounting Technology: Through Hole; Code_JEDEC: MS-001; ComponentLink1Description: Manufacturer URL; ComponentLink1URL: http://www.analog.com/en/index.html; ComponentLink2Description: Datasheet; ComponentLink2URL: http://www.analog.com/static/imported-files/data_sheets/AD8001.pdf; ComponentLink3Description: Package Specification; ComponentLink3URL: http:/www.analog.com/static/imported-files/packages/PKG_PDF/PDIP(N)/N_8.pdf
footprint ADI-N-8 (DIP, 8-Leads, Body 9.59x6.6mm, Pitch 2.54mm)
part A pins: 2 -IN (in), 3 +IN (in), 4 -V (power), 6 OUT (out), 7 +V (power)
part B pins: 1 NC, 5 NC, 8 NC

## AD8001AQ
designator U?
Single Channel Low Power Operational Amplifier, 880 MHz BW, 1 KV/us SR, Industrial, 8-pin DIP (Q-8), Tube; Generic Part Number: AD8001; Manufacturer: Analog Devices; PartNumber: AD8001AQ; Amplifiers Per Package: 1; Input Bias Current: 3uA; Input Offset Voltage: 2mV; Iq/Amp: 5mA; Slew Rate: 1KV/us; Small Signal Bandwidth: 880MHz; V Span Max: 12V; V Span Min: 6V; DatasheetVersion: Rev. D; PackageReference: Q-8; PackageDescription: 8-Pin Ceramic Dual In-Line Package, Row spacing 7.62 mm, Pitch 2.54 mm; Supplier 1: Digi-Key; Supplier Part Number 1: AD8001AQ-ND; Mounting Technology: Through Hole; ComponentLink1Description: Manufacturer URL; ComponentLink1URL: http://www.analog.com/en/index.html; ComponentLink2Description: Datasheet; ComponentLink2URL: http://www.analog.com/static/imported-files/data_sheets/AD8001.pdf; ComponentLink3Description: Package Specification; ComponentLink3URL: http://www.analog.com/static/imported-files/packages/3925655241313314758Q_8.pdf
footprint ADI-Q-8 (DIP, 8-Leads, Body 10.29x6.73mm, Pitch 2.54mm)
part A pins: 2 -IN (in), 3 +IN (in), 4 -V (power), 6 OUT (out), 7 +V (power)
part B pins: 1 NC, 5 NC, 8 NC

## AD8001AR
designator U?
Single Channel Low Power Operational Amplifier, 880 MHz BW, 1 KV/us SR, Industrial, 8-pin SOIC (R-8), Tube; Generic Part Number: AD8001; Manufacturer: Analog Devices; PartNumber: AD8001AR; Amplifiers Per Package: 1; Input Bias Current: 3uA; Input Offset Voltage: 2mV; Iq/Amp: 5mA; Slew Rate: 1KV/us; Small Signal Bandwidth: 880MHz; V Span Max: 12V; V Span Min: 6V; DatasheetVersion: Rev. D; PackageVersion: 060506-A; PackageReference: R-8; PackageDescription: 8-Pin Standard Small Outline Package, Body 3.9 x 4.9 mm, Pitch 1.27 mm; Supplier 1: Digi-Key; Supplier Part Number 1: AD8001AR-ND; Mounting Technology: Surface Mount; Code_JEDEC: MS-012-AA; ComponentLink1Description: Manufacturer URL; ComponentLink1URL: http://www.analog.com/en/index.html; ComponentLink2Description: Datasheet; ComponentLink2URL: http://www.analog.com/static/imported-files/data_sheets/AD8001.pdf; ComponentLink3Description: Package Specification; ComponentLink3URL: http://www.analog.com/static/imported-files/packages/PKG_PDF/SOIC_Narrow%20(R)/R_8.pdf
footprint ADI-R-8_N (SOIC, 8-Leads, Body 4.9x3.9mm, Pitch 1.27mm, IPC Medium Density)
footprint ADI-R-8_L (SOIC, 8-Leads, Body 4.9x3.9mm, Pitch 1.27mm, IPC High Density)
footprint ADI-R-8_M (SOIC, 8-Leads, Body 4.9x3.9mm, Pitch 1.27mm, IPC Low Density)
part A pins: 2 -IN (in), 3 +IN (in), 4 -V (power), 6 OUT (out), 7 +V (power)
part B pins: 1 NC, 5 NC, 8 NC

## AD8001AR-REEL
designator U?
Single Channel Low Power Operational Amplifier, 880 MHz BW, 1 KV/us SR, Industrial, 8-pin SOIC (R-8), Reel; Generic Part Number: AD8001; Manufacturer: Analog Devices; PartNumber: AD8001AR-REEL; Amplifiers Per Package: 1; Input Bias Current: 3uA; Input Offset Voltage: 2mV; Iq/Amp: 5mA; Slew Rate: 1KV/us; Small Signal Bandwidth: 880MHz; V Span Max: 12V; V Span Min: 6V; DatasheetVersion: Rev. D; PackageVersion: 060506-A; PackageReference: R-8; PackageDescription: 8-Pin Standard Small Outline Package, Body 3.9 x 4.9 mm, Pitch 1.27 mm; Supplier 1: Digi-Key; Supplier Part Number 1: AD8001AR-REEL-ND; Supplier 2: Newark; Supplier Part Number 2: 09B6325; Mounting Technology: Surface Mount; Code_JEDEC: MS-012-AA; ComponentLink1Description: Manufacturer URL; ComponentLink1URL: http://www.analog.com/en/index.html; ComponentLink2Description: Datasheet; ComponentLink2URL: http://www.analog.com/static/imported-files/data_sheets/AD8001.pdf; ComponentLink3Description: Package Specification; ComponentLink3URL: http://www.analog.com/static/imported-files/packages/PKG_PDF/SOIC_Narrow%20(R)/R_8.pdf
footprint ADI-R-8_N (SOIC, 8-Leads, Body 4.9x3.9mm, Pitch 1.27mm, IPC Medium Density)
footprint ADI-R-8_L (SOIC, 8-Leads, Body 4.9x3.9mm, Pitch 1.27mm, IPC High Density)
footprint ADI-R-8_M (SOIC, 8-Leads, Body 4.9x3.9mm, Pitch 1.27mm, IPC Low Density)
part A pins: 2 -IN (in), 3 +IN (in), 4 -V (power), 6 OUT (out), 7 +V (power)
part B pins: 1 NC, 5 NC, 8 NC

## AD8001AR-REEL7
designator U?
Single Channel Low Power Operational Amplifier, 880 MHz BW, 1 KV/us SR, Industrial, 8-pin SOIC (R-8), Reel; Generic Part Number: AD8001; Manufacturer: Analog Devices; PartNumber: AD8001AR-REEL7; Amplifiers Per Package: 1; Input Bias Current: 3uA; Input Offset Voltage: 2mV; Iq/Amp: 5mA; Slew Rate: 1KV/us; Small Signal Bandwidth: 880MHz; V Span Max: 12V; V Span Min: 6V; DatasheetVersion: Rev. D; PackageVersion: 060506-A; PackageReference: R-8; PackageDescription: 8-Pin Standard Small Outline Package, Body 3.9 x 4.9 mm, Pitch 1.27 mm; Supplier 1: Digi-Key; Supplier Part Number 1: AD8001AR-REEL7-ND; Supplier 2: Newark; Supplier Part Number 2: 09B6326; Mounting Technology: Surface Mount; Code_JEDEC: MS-012-AA; ComponentLink1Description: Manufacturer URL; ComponentLink1URL: http://www.analog.com/en/index.html; ComponentLink2Description: Datasheet; ComponentLink2URL: http://www.analog.com/static/imported-files/data_sheets/AD8001.pdf; ComponentLink3Description: Package Specification; ComponentLink3URL: http://www.analog.com/static/imported-files/packages/PKG_PDF/SOIC_Narrow%20(R)/R_8.pdf
footprint ADI-R-8_N (SOIC, 8-Leads, Body 4.9x3.9mm, Pitch 1.27mm, IPC Medium Density)
footprint ADI-R-8_L (SOIC, 8-Leads, Body 4.9x3.9mm, Pitch 1.27mm, IPC High Density)
footprint ADI-R-8_M (SOIC, 8-Leads, Body 4.9x3.9mm, Pitch 1.27mm, IPC Low Density)
part A pins: 2 -IN (in), 3 +IN (in), 4 -V (power), 6 OUT (out), 7 +V (power)
part B pins: 1 NC, 5 NC, 8 NC

## AD8001ART-REEL7
designator U?
Single Channel Low Power Operational Amplifier, 880 MHz BW, 1 KV/us SR, Industrial, 5-pin SOT23 (RJ-5), Reel; Generic Part Number: AD8001; Manufacturer: Analog Devices; PartNumber: AD8001ART-REEL7; Amplifiers Per Package: 1; Input Bias Current: 3uA; Input Offset Voltage: 2mV; Iq/Amp: 5mA; Slew Rate: 1KV/us; Small Signal Bandwidth: 880MHz; V Span Max: 12V; V Span Min: 6V; DatasheetVersion: Rev. D; PackageVersion: 121608-A; PackageReference: RJ-5; PackageDescription: 5-Pin Small Outline Transistor Package, Body 2.9 x 1.6 mm, Pitch 0.95 mm; Supplier 1: Digi-Key; Supplier Part Number 1: AD8001ART-REEL7TR-ND; Mounting Technology: Surface Mount; Code_JEDEC: MO-178-AA; ComponentLink1Description: Manufacturer URL; ComponentLink1URL: http://www.analog.com/en/index.html; ComponentLink2Description: Datasheet; ComponentLink2URL: http://www.analog.com/static/imported-files/data_sheets/AD8001.pdf; ComponentLink3Description: Package Specification; ComponentLink3URL: http://www.analog.com/static/imported-files/packages/PKG_PDF/SOT-23(RJ)/RJ_5.pdf
footprint ADI-RJ-5_N (SOT-23, 5-Leads, Body 2.9x1.6mm, Pitch 0.95mm, IPC Medium Density)
footprint ADI-RJ-5_L (SOT-23, 5-Leads, Body 2.9x1.6mm, Pitch 0.95mm, IPC High Density)
footprint ADI-RJ-5_M (SOT-23, 5-Leads, Body 2.9x1.6mm, Pitch 0.95mm, IPC Low Density)
pins: 1 VOUT (out), 2 -VS (power), 3 +IN (in), 4 -IN (in), 5 +VS (power)

## AD8001ARTZ-R2
designator U?
Single Channel Low Power Operational Amplifier, 880 MHz BW, 1 KV/us SR, Industrial, 5-pin SOT23 (RJ-5), Reel; Generic Part Number: AD8001; Manufacturer: Analog Devices; PartNumber: AD8001ARTZ-R2; Amplifiers Per Package: 1; Input Bias Current: 3uA; Input Offset Voltage: 2mV; Iq/Amp: 5mA; Slew Rate: 1KV/us; Small Signal Bandwidth: 880MHz; V Span Max: 12V; V Span Min: 6V; DatasheetVersion: Rev. D; PackageVersion: 121608-A; PackageReference: RJ-5; PackageDescription: 5-Pin Small Outline Transistor Package, Body 2.9 x 1.6 mm, Pitch 0.95 mm; Supplier 1: Digi-Key; Supplier Part Number 1: AD8001ARTZ-R2CT-ND; Supplier 2: Farnell; Supplier Part Number 2: 1651271RL; Supplier 3: Farnell; Supplier Part Number 3: 1651271; Supplier 4: Newark; Supplier Part Number 4: 19M8866; Mounting Technology: Surface Mount; Code_JEDEC: MO-178-AA; ComponentLink1Description: Manufacturer URL; ComponentLink1URL: http://www.analog.com/en/index.html; ComponentLink2Description: Datasheet; ComponentLink2URL: http://www.analog.com/static/imported-files/data_sheets/AD8001.pdf; ComponentLink3Description: Package Specification; ComponentLink3URL: http://www.analog.com/static/imported-files/packages/PKG_PDF/SOT-23(RJ)/RJ_5.pdf
footprint ADI-RJ-5_N (SOT-23, 5-Leads, Body 2.9x1.6mm, Pitch 0.95mm, IPC Medium Density)
footprint ADI-RJ-5_L (SOT-23, 5-Leads, Body 2.9x1.6mm, Pitch 0.95mm, IPC High Density)
footprint ADI-RJ-5_M (SOT-23, 5-Leads, Body 2.9x1.6mm, Pitch 0.95mm, IPC Low Density)
pins: 1 VOUT (out), 2 -VS (power), 3 +IN (in), 4 -IN (in), 5 +VS (power)

## AD8001ARTZ-REEL
designator U?
Single Channel Low Power Operational Amplifier, 880 MHz BW, 1 KV/us SR, Industrial, 5-pin SOT23 (RJ-5), Reel; Generic Part Number: AD8001; Manufacturer: Analog Devices; PartNumber: AD8001ARTZ-REEL; Amplifiers Per Package: 1; Input Bias Current: 3uA; Input Offset Voltage: 2mV; Iq/Amp: 5mA; Slew Rate: 1KV/us; Small Signal Bandwidth: 880MHz; V Span Max: 12V; V Span Min: 6V; DatasheetVersion: Rev. D; PackageVersion: 121608-A; PackageReference: RJ-5; PackageDescription: 5-Pin Small Outline Transistor Package, Body 2.9 x 1.6 mm, Pitch 0.95 mm; Supplier 1: Digi-Key; Supplier Part Number 1: AD8001ARTZ-REEL-ND; Mounting Technology: Surface Mount; Code_JEDEC: MO-178-AA; ComponentLink1Description: Manufacturer URL; ComponentLink1URL: http://www.analog.com/en/index.html; ComponentLink2Description: Datasheet; ComponentLink2URL: http://www.analog.com/static/imported-files/data_sheets/AD8001.pdf; ComponentLink3Description: Package Specification; ComponentLink3URL: http://www.analog.com/static/imported-files/packages/PKG_PDF/SOT-23(RJ)/RJ_5.pdf
footprint ADI-RJ-5_N (SOT-23, 5-Leads, Body 2.9x1.6mm, Pitch 0.95mm, IPC Medium Density)
footprint ADI-RJ-5_L (SOT-23, 5-Leads, Body 2.9x1.6mm, Pitch 0.95mm, IPC High Density)
footprint ADI-RJ-5_M (SOT-23, 5-Leads, Body 2.9x1.6mm, Pitch 0.95mm, IPC Low Density)
pins: 1 VOUT (out), 2 -VS (power), 3 +IN (in), 4 -IN (in), 5 +VS (power)

## AD8001ARTZ-REEL7
designator U?
Single Channel Low Power Operational Amplifier, 880 MHz BW, 1 KV/us SR, Industrial, 5-pin SOT23 (RJ-5), Reel; Generic Part Number: AD8001; Manufacturer: Analog Devices; PartNumber: AD8001ARTZ-REEL7; Amplifiers Per Package: 1; Input Bias Current: 3uA; Input Offset Voltage: 2mV; Iq/Amp: 5mA; Slew Rate: 1KV/us; Small Signal Bandwidth: 880MHz; V Span Max: 12V; V Span Min: 6V; DatasheetVersion: Rev. D; PackageVersion: 121608-A; PackageReference: RJ-5; PackageDescription: 5-Pin Small Outline Transistor Package, Body 2.9 x 1.6 mm, Pitch 0.95 mm; Supplier 1: Digi-Key; Supplier Part Number 1: AD8001ARTZREEL7TR-ND; Supplier 2: Digi-Key; Supplier Part Number 2: AD8001ARTZREEL7CT-ND; Supplier 3: Digi-Key; Supplier Part Number 3: AD8001ARTZREEL7DKR-ND; Supplier 4: Newark; Supplier Part Number 4: 59K6136; Mounting Technology: Surface Mount; Code_JEDEC: MO-178-AA; ComponentLink1Description: Manufacturer URL; ComponentLink1URL: http://www.analog.com/en/index.html; ComponentLink2Description: Datasheet; ComponentLink2URL: http://www.analog.com/static/imported-files/data_sheets/AD8001.pdf; ComponentLink3Description: Package Specification; ComponentLink3URL: http://www.analog.com/static/imported-files/packages/PKG_PDF/SOT-23(RJ)/RJ_5.pdf
footprint ADI-RJ-5_N (SOT-23, 5-Leads, Body 2.9x1.6mm, Pitch 0.95mm, IPC Medium Density)
footprint ADI-RJ-5_L (SOT-23, 5-Leads, Body 2.9x1.6mm, Pitch 0.95mm, IPC High Density)
footprint ADI-RJ-5_M (SOT-23, 5-Leads, Body 2.9x1.6mm, Pitch 0.95mm, IPC Low Density)
pins: 1 VOUT (out), 2 -VS (power), 3 +IN (in), 4 -IN (in), 5 +VS (power)

## AD8001ARZ
designator U?
Single Channel Low Power Operational Amplifier, 880 MHz BW, 1 KV/us SR, Industrial, 8-pin SOIC (R-8), Tube; Generic Part Number: AD8001; Manufacturer: Analog Devices; PartNumber: AD8001ARZ; Amplifiers Per Package: 1; Input Bias Current: 3uA; Input Offset Voltage: 2mV; Iq/Amp: 5mA; Slew Rate: 1KV/us; Small Signal Bandwidth: 880MHz; V Span Max: 12V; V Span Min: 6V; DatasheetVersion: Rev. D; PackageVersion: 060506-A; PackageReference: R-8; PackageDescription: 8-Pin Standard Small Outline Package, Body 3.9 x 4.9 mm, Pitch 1.27 mm; Supplier 1: Digi-Key; Supplier Part Number 1: AD8001ARZ-ND; Supplier 2: Farnell; Supplier Part Number 2: 9605657; Supplier 3: Newark; Supplier Part Number 3: 19M0912; Mounting Technology: Surface Mount; Code_JEDEC: MS-012-AA; ComponentLink1Description: Manufacturer URL; ComponentLink1URL: http://www.analog.com/en/index.html; ComponentLink2Description: Datasheet; ComponentLink2URL: http://www.analog.com/static/imported-files/data_sheets/AD8001.pdf; ComponentLink3Description: Package Specification; ComponentLink3URL: http://www.analog.com/static/imported-files/packages/PKG_PDF/SOIC_Narrow%20(R)/R_8.pdf
footprint ADI-R-8_N (SOIC, 8-Leads, Body 4.9x3.9mm, Pitch 1.27mm, IPC Medium Density)
footprint ADI-R-8_L (SOIC, 8-Leads, Body 4.9x3.9mm, Pitch 1.27mm, IPC High Density)
footprint ADI-R-8_M (SOIC, 8-Leads, Body 4.9x3.9mm, Pitch 1.27mm, IPC Low Density)
part A pins: 2 -IN (in), 3 +IN (in), 4 -V (power), 6 OUT (out), 7 +V (power)
part B pins: 1 NC, 5 NC, 8 NC

## AD8001ARZ-REEL
designator U?
Single Channel Low Power Operational Amplifier, 880 MHz BW, 1 KV/us SR, Industrial, 8-pin SOIC (R-8), Reel; Generic Part Number: AD8001; Manufacturer: Analog Devices; PartNumber: AD8001ARZ-REEL; Amplifiers Per Package: 1; Input Bias Current: 3uA; Input Offset Voltage: 2mV; Iq/Amp: 5mA; Slew Rate: 1KV/us; Small Signal Bandwidth: 880MHz; V Span Max: 12V; V Span Min: 6V; DatasheetVersion: Rev. D; PackageVersion: 060506-A; PackageReference: R-8; PackageDescription: 8-Pin Standard Small Outline Package, Body 3.9 x 4.9 mm, Pitch 1.27 mm; Supplier 1: Digi-Key; Supplier Part Number 1: AD8001ARZ-REEL-ND; Supplier 2: Newark; Supplier Part Number 2: 82H2941; Mounting Technology: Surface Mount; Code_JEDEC: MS-012-AA; ComponentLink1Description: Manufacturer URL; ComponentLink1URL: http://www.analog.com/en/index.html; ComponentLink2Description: Datasheet; ComponentLink2URL: http://www.analog.com/static/imported-files/data_sheets/AD8001.pdf; ComponentLink3Description: Package Specification; ComponentLink3URL: http://www.analog.com/static/imported-files/packages/PKG_PDF/SOIC_Narrow%20(R)/R_8.pdf
footprint ADI-R-8_N (SOIC, 8-Leads, Body 4.9x3.9mm, Pitch 1.27mm, IPC Medium Density)
footprint ADI-R-8_L (SOIC, 8-Leads, Body 4.9x3.9mm, Pitch 1.27mm, IPC High Density)
footprint ADI-R-8_M (SOIC, 8-Leads, Body 4.9x3.9mm, Pitch 1.27mm, IPC Low Density)
part A pins: 2 -IN (in), 3 +IN (in), 4 -V (power), 6 OUT (out), 7 +V (power)
part B pins: 1 NC, 5 NC, 8 NC

## AD8001ARZ-REEL7
designator U?
Single Channel Low Power Operational Amplifier, 880 MHz BW, 1 KV/us SR, Industrial, 8-pin SOIC (R-8), Reel; Generic Part Number: AD8001; Manufacturer: Analog Devices; PartNumber: AD8001ARZ-REEL7; Amplifiers Per Package: 1; Input Bias Current: 3uA; Input Offset Voltage: 2mV; Iq/Amp: 5mA; Slew Rate: 1KV/us; Small Signal Bandwidth: 880MHz; V Span Max: 12V; V Span Min: 6V; DatasheetVersion: Rev. D; PackageVersion: 060506-A; PackageReference: R-8; PackageDescription: 8-Pin Standard Small Outline Package, Body 3.9 x 4.9 mm, Pitch 1.27 mm; Supplier 1: Digi-Key; Supplier Part Number 1: AD8001ARZ-REEL7TR-ND; Supplier 2: Digi-Key; Supplier Part Number 2: AD8001ARZ-REEL7CT-ND; Supplier 3: Digi-Key; Supplier Part Number 3: AD8001ARZ-REEL7DKR-ND; Supplier 4: Newark; Supplier Part Number 4: 59K6138; Mounting Technology: Surface Mount; Code_JEDEC: MS-012-AA; ComponentLink1Description: Manufacturer URL; ComponentLink1URL: http://www.analog.com/en/index.html; ComponentLink2Description: Datasheet; ComponentLink2URL: http://www.analog.com/static/imported-files/data_sheets/AD8001.pdf; ComponentLink3Description: Package Specification; ComponentLink3URL: http://www.analog.com/static/imported-files/packages/PKG_PDF/SOIC_Narrow%20(R)/R_8.pdf
footprint ADI-R-8_N (SOIC, 8-Leads, Body 4.9x3.9mm, Pitch 1.27mm, IPC Medium Density)
footprint ADI-R-8_L (SOIC, 8-Leads, Body 4.9x3.9mm, Pitch 1.27mm, IPC High Density)
footprint ADI-R-8_M (SOIC, 8-Leads, Body 4.9x3.9mm, Pitch 1.27mm, IPC Low Density)
part A pins: 2 -IN (in), 3 +IN (in), 4 -V (power), 6 OUT (out), 7 +V (power)
part B pins: 1 NC, 5 NC, 8 NC

## AD8002ANZ
designator U?
Double Channel Low Power Operational Amplifier, 600 MHz BW, 1.2 KV/us SR, Industrial, 8-pin DIP (N-8), Tube; Generic Part Number: AD8002; Manufacturer: Analog Devices; PartNumber: AD8002ANZ; Amplifiers Per Package: 2; Input Bias Current: 3uA; Input Offset Voltage: 2mV; Iq/Amp: 11.5mA; Small Signal Bandwidth: 600MHz; V Span Max: 12V; V Span Min: 6V; DatasheetVersion: Rev. D; PackageVersion: 070606-A; PackageReference: N-8; PackageDescription: 8-Pin Plastic Dual In-Line Package, Row spacing 7.62 mm, Pitch 2.54 mm; Supplier 1: Digi-Key; Supplier Part Number 1: AD8002ANZ-ND; Supplier 2: Newark; Supplier Part Number 2: 59K6139; Slew Rate: 1.2KV/us; Mounting Technology: Through Hole; Code_JEDEC: MS-001; ComponentLink1Description: Manufacturer URL; ComponentLink1URL: http://www.analog.com/en/index.html; ComponentLink2Description: Datasheet; ComponentLink2URL: http://www.analog.com/static/imported-files/data_sheets/AD8002.pdf; ComponentLink3Description: Package Specification; ComponentLink3URL: http:/www.analog.com/static/imported-files/packages/PKG_PDF/PDIP(N)/N_8.pdf
footprint ADI-N-8 (DIP, 8-Leads, Body 9.59x6.6mm, Pitch 2.54mm)
pins on every part: 4 -V (power), 8 +V (power)
part A pins: 1 OUT 1 (out), 2 -IN 1 (in), 3 +IN 1 (in)
part B pins: 5 +IN 2 (in), 6 -IN 2 (in), 7 OUT 2 (out)